# Altium integrated library LM339.IntLib: 1 symbol
Pins are listed as number, name and electrical type; pins without a type are passive.

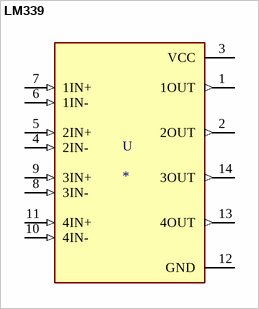
[diagram p0: symbol LM339]

## LM339
designator U
Comparator Differential CMOS, MOS, Open-Collector, TTL 14-SOIC; MF: Texas Instruments; MP: LM339; Package: SOIC-14 Texas Instruments; Value: *; Price: None; Availability: Unavailable; SnapEDA_Link: https://www.snapeda.com/parts/LM339/Texas%20Instruments/view-part/2886154/?ref=snap
footprint SOIC127P600X175-14N
pins: 1 1OUT (out), 2 2OUT (out), 3 VCC (power), 4 2IN- (in), 5 2IN+ (in), 6 1IN- (in), 7 1IN+ (in), 8 3IN- (in), 9 3IN+ (in), 10 4IN- (in), 11 4IN+ (in), 12 GND (power), 13 4OUT (out), 14 3OUT (out)